# EAGLE library part LM4950 (library Audio-Power-amlifier V.2.0)
LM4950 Boomer ™ Audio Power Amplifier Series 7.5W Mono-BTL or 3.1W Stereo Audio Power Amplifier
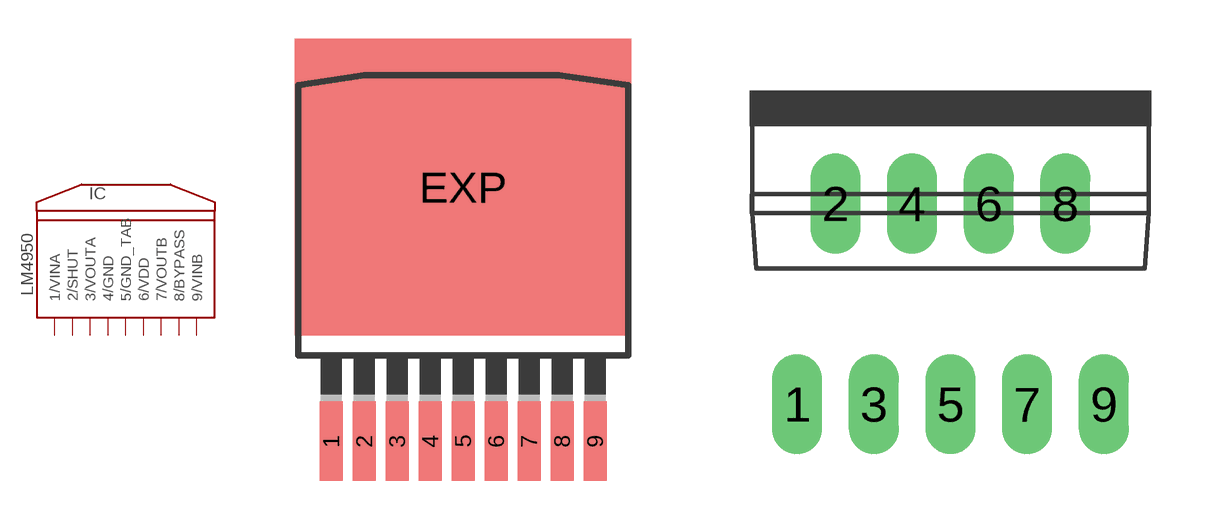
[diagram p249: symbol with the pads of DDPACK-9; footprints DDPACK-9, TO220Z9]

Designator prefix IC

## LM4950  [DDPACK-9]
1  1/VINA  in
2  2/SHUT
3  3/VOUTA  out
4  4/GND  pwr
5  5/GND_TAB  pwr
6  6/VDD  pwr
7  7/VOUTB  out
8  8/BYPASS
9  9/VINB  in

## LM4950TO220-9  [TO220Z9]
Pads as for DDPACK-9

## Footprint DDPACK-9 (pad centres in mm)
DDPAK-9
smd 0.889 x 3.048: 1 -5.08,-8.255; 2 -3.81,-8.255; 3 -2.54,-8.255; 4 -1.27,-8.255; 5 0,-8.255; 6 1.27,-8.255; 7 2.54,-8.255; 8 3.81,-8.255; 9 5.08,-8.255
smd 12.954 x 11.43: EXP 0,1.524

## Footprint TO220Z9 (pad centres in mm)
9-lead single in-line (TO220Z9) plastic power package
drill 0.5 pad 1.27 long: 1 -3.88,-5.08; 2 -2.91,0; 3 -1.94,-5.08; 4 -0.97,0; 5 0,-5.08; 6 0.97,0; 7 1.94,-5.08; 8 2.91,0; 9 3.88,-5.08